# Altium integrated library texas.IntLib: 169 symbols (part 5 of 5)
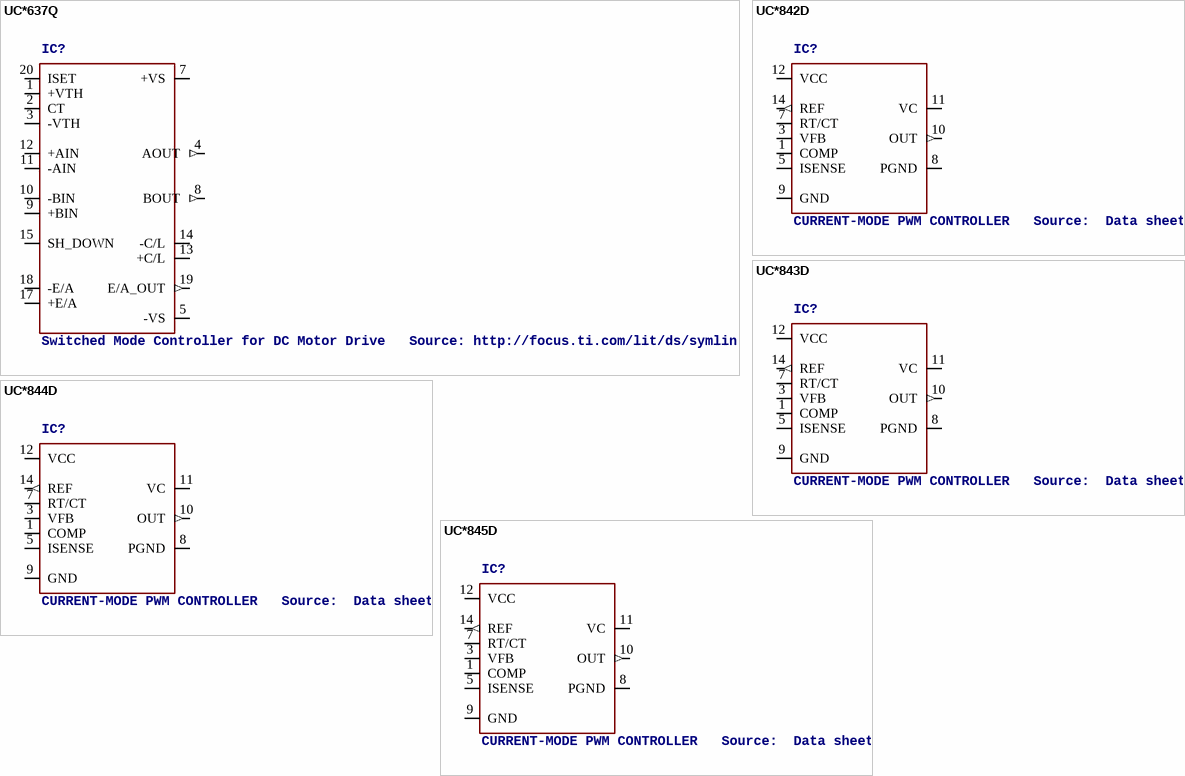
[diagram p35: symbols UC*637Q to UC*845D]

## UC*843D
designator IC?, comment CURRENT-MODE PWM CONTROLLER   Source:  Data sheet
MPN: UC2843D; MPN: UC3843DG4; MF: TEXAS INSTRUMENTS; OC_FARNELL: 1388056; OC_FARNELL: 1234952
footprint D_R-PDSO-G14
pins: 1 COMP, 3 VFB, 5 ISENSE, 7 RT/CT, 8 PGND, 9 GND (power), 10 OUT (out), 11 VC, 12 VCC (power), 14 REF (out)

## UC*844D
designator IC?, comment CURRENT-MODE PWM CONTROLLER   Source:  Data sheet
MPN: UC3844BDG; MF: ON SEMICONDUCTOR; OC_FARNELL: unknown; OC_FARNELL: 1228725
footprint D_R-PDSO-G14
pins: 1 COMP, 3 VFB, 5 ISENSE, 7 RT/CT, 8 PGND, 9 GND (power), 10 OUT (out), 11 VC, 12 VCC (power), 14 REF (out)

## UC*845D
designator IC?, comment CURRENT-MODE PWM CONTROLLER   Source:  Data sheet
MPN: UC2845DG4; MPN: UC3845DG4; MF: TEXAS INSTRUMENTS; OC_FARNELL: 1234881; OC_FARNELL: 1234967
footprint D_R-PDSO-G14
pins: 1 COMP, 3 VFB, 5 ISENSE, 7 RT/CT, 8 PGND, 9 GND (power), 10 OUT (out), 11 VC, 12 VCC (power), 14 REF (out)